# Altium footprint library TSSOP-8, Body 3mm, Pitch 0.65mm.PcbLib: 1 footprints
Each footprint in its own frame and in the unit in brackets; x right, y up, seen from the top. Pads: shape width x height; smd on the part's side, far side on the other; paste and mask are expansions set on the pad; w line width, h text height; cw(c..) or ccw(c..) is an arc to the next point about the centre after c.
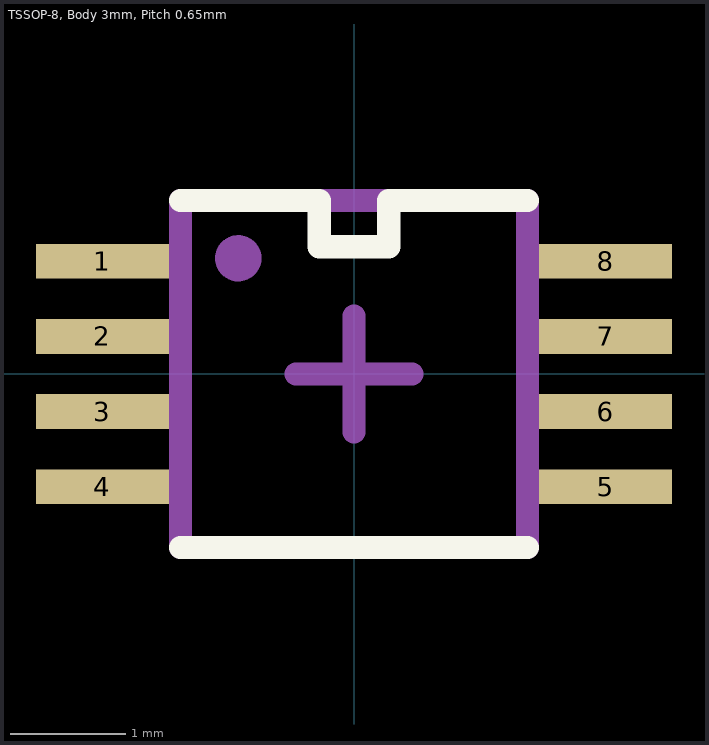
[diagram p0: the footprint, top view; thin cyan lines are the x and y axes]

## TSSOP-8, Body 3mm, Pitch 0.65mm [mm] "TSSOP-8, Body 3mm, Pitch 0.65mm"
height 1.1
pads (8):
  rect 1.15x0.3 smd mask+0.05: 1(-2.175,0.975) 2(-2.175,0.325) 3(-2.175,-0.325) 4(-2.175,-0.975) 5(2.175,-0.975) 6(2.175,-0.325) 7(2.175,0.325) 8(2.175,0.975)
Top Overlay:
  lines w0.2: -1.5,-1.5 1.5,-1.5 ; -1.5,1.5 -0.3,1.5 -0.3,1.1 0.3,1.1 0.3,1.5 1.5,1.5
Top Assembly:
  circle w0.2: c-1,1 r0.1
  lines w0.2: -1.5,-1.5 -1.5,1.5 1.5,1.5 1.5,-1.5 -1.5,-1.5
Top Designator:
  text ".Designator" at -2.3,-1.275 h1.2
Top Component Center:
  lines w0.2: -0.5,0 0.5,0 ; 0,-0.5 0,0.5
3D body: height 1.11, standoff 0.5, extent -1.2,0.8 -0.8,1.2
3D body "TSSOP-8, Body 3mm, Pitch 0.65mm.step": height 1.1, standoff 0, extent -2.5,-1.55 2.5,1.55